# EAGLE library part AS-ITM-00342 (library tinycircuits)
IC I2C MUX 4CH BI-DIR 20-VQFN
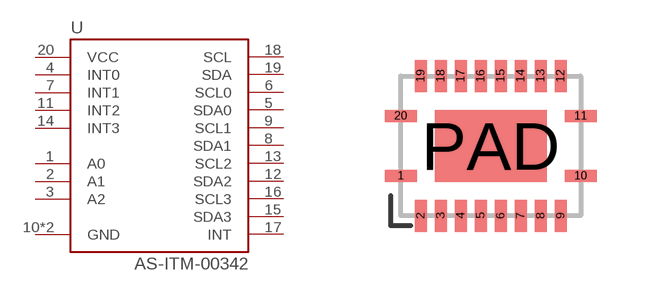
[diagram p136: symbol with the pads of VQFN-20_4.5X3.5; footprint VQFN-20_4.5X3.5]

Designator prefix U

## AS-ITM-00342 (PARTNO: AS-ITM-00342; VALUE: PCA9544A)  [VQFN-20_4.5X3.5]
1  A0
2  A1
3  A2
4  INT0
5  SDA0
6  SCL0
7  INT1
8  SDA1
9  SCL1
10  GND
11  INT2
12  SDA2
13  SCL2
14  INT3
15  SDA3
16  SCL3
17  INT
18  SCL
19  SDA
20  VCC
PAD  GND

## Footprint VQFN-20_4.5X3.5 (pad centres in mm)
smd 0.8 x 0.3: 1 -2.25,-0.75; 10 2.25,-0.75; 11 2.25,0.75; 20 -2.25,0.75
smd 0.3 x 0.8: 2 -1.75,-1.75; 3 -1.25,-1.75; 4 -0.75,-1.75; 5 -0.25,-1.75; 6 0.25,-1.75; 7 0.75,-1.75; 8 1.25,-1.75; 9 1.75,-1.75; 12 1.75,1.75; 13 1.25,1.75; 14 0.75,1.75; 15 0.25,1.75; 16 -0.25,1.75; 17 -0.75,1.75; 18 -1.25,1.75; 19 -1.75,1.75
smd 2.8 x 1.8: PAD 0,0